# Altium schematic symbol library CAN Termination Resistor 0805.SchLib: 2 symbols
Pins are listed as number, name and electrical type; pins without a type are passive.

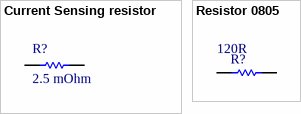
[diagram p0: symbols Current Sensing resistor to Resistor 0805]

## Current Sensing resistor
designator R?, comment 2.5 mOhm
Digi-Key_Part_Number: 541-3933-ND; ComponentLink1Description: Digi-Key_Purchase_URL; ComponentLink1URL: https://www.digikey.com/en/products/detail/vishay-dale/SR32L500FE66/7560303?s=N4IgTCBcDaIM4CcDMYA2BWADJkBdAvkA; ComponentLink2Description: Datasheet_Link; ComponentLink2URL: https://www.vishay.com/docs/31067/sr.pdf
footprint Shunt Resistor
pins: 1, 2

## Resistor 0805
designator R?  value 120R
Generic 0805 Resistor; Tolerance: 5 %; Case-Metric: 2012; Case-EIA: 0805; Power: 0.125 W; Technology: SMT; Digi-Key_Part_Number: RHM120KCT-ND; ComponentLink1Description: Digi-Key_Purchase_Link; ComponentLink1URL: https://www.digikey.com/product-detail/en/rohm-semiconductor/ESR10EZPJ121/RHM120KCT-ND/1762959; ComponentLink2Description: Datasheet Link; ComponentLink2URL: https://d1d2qsbl8m0m72.cloudfront.net/en/products/databook/datasheet/passive/resistor/chip_resistor/esr-e.pdf
footprint RESC0805(2012)_N (Chip Resistor, Body 2.0x1.3mm, IPC Medium Density)
pins: 1, 2
1 alternate drawing of the same symbol